# Altium integrated library Changzhou Amass Lithium Battery Connector.IntLib: 17 symbols
Pins are listed as number, name and electrical type; pins without a type are passive.

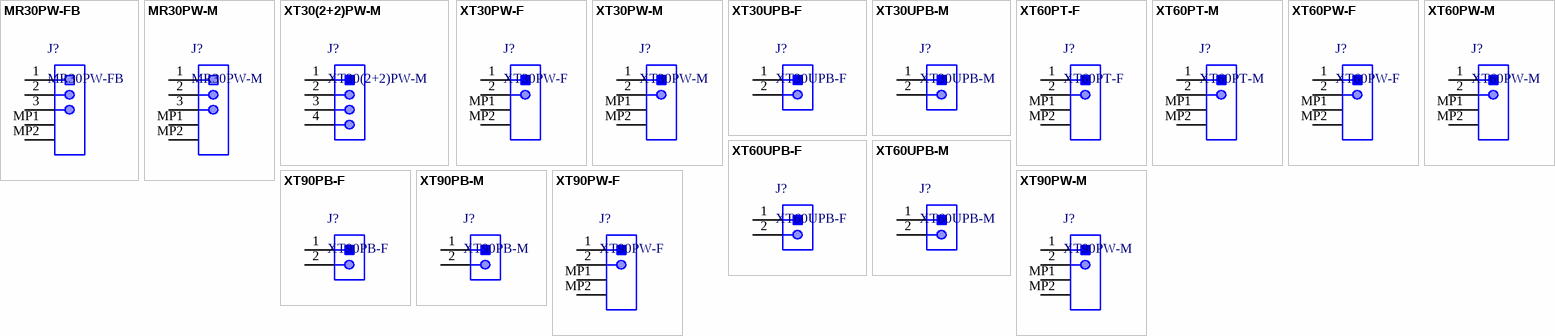
[diagram p0: symbols MR30PW-FB to XT90PW-M]

## MR30PW-FB
designator J?
Motor Connector, Female, 3-Pin THD, -20 to 120 degC; Manufacturer: AMASS; Metal Material: Brass Gold Plated; Plastic Material: PA; Current Rating: 15A; Voltage Rating: DC 500V; Part Number: MR30PW-FB; Color: Yellow; ComponentLink1Description: Manufacturer URL; ComponentLink1URL: http://www.china-amass.com; Temperature: -20℃ to 120℃
footprint AMASS-MR30PW-FB (TH, 4-Leads, Body 15.4x15mm, Pitch 3.5mm)
pins: 1, 2, 3, MP1, MP2

## MR30PW-M
designator J?
Motor Connector, Male, 3-Pin THD, -20 to 120 degC; Manufacturer: AMASS; Metal Material: Brass Gold Plated; Plastic Material: PA; Current Rating: 15A; Voltage Rating: DC 500V; Part Number: MR30PW-M; Color: Yellow; ComponentLink1Description: Manufacturer URL; ComponentLink1URL: http://www.china-amass.com; Temperature: -20℃ to 120℃
footprint AMASS-MR30PW-M (TH, 4-Leads, Body 15.4x14.05mm, Pitch 3.5mm)
pins: 1, 2, 3, MP1, MP2

## XT30(2+2)PW-M
designator J?
XT Series Controller Male Connector, 4 Pin TH, 5.0 mm Pitch, -20 to 120 degC; Manufacturer: AMASS; Part Number: XT30PW-M; Manufacturer URL: http://www.china-amass.com
footprint AMASS-XT30(2+2)PW-M (TH, 4-Leads, Body 15.5x12.53mm)
pins: 1, 2, 3, 4

## XT30PW-F
designator J?
XT Series Lithium Battery Female Connector, 4-pin TH; Manufacturer: AMASS; Manufacturer URL: http://www.china-amass.com; Part Number: XT30PW-F
footprint AMASS-XT30PW-F (TH, 4-Leads, Body 14.9x13.3mm)
pins: 1, 2, MP1, MP2

## XT30PW-M
designator J?
XT Series Lithium Battery Male Connector, 4-pin TH; Manufacturer: AMASS; Manufacturer URL: http://www.china-amass.com; Part Number: XT30PW-M
footprint AMASS-XT30PW-M (TH, 4-Leads, Body 13.95x13.3mm)
pins: 1, 2, MP1, MP2

## XT30UPB-F
designator J?
XT Series Lithium Battery Female Connector, 2-pin TH; Manufacturer: AMASS; Manufacturer URL: http://www.china-amass.com; Part Number: XT30UPB-F
footprint AMASS-XT30UPB-F (TH, 2-Leads, Body 10.2x5.2mm, Pitch 5.00mm)
pins: 1, 2

## XT30UPB-M
designator J?
XT Series Lithium Battery Male Connector, 2-pin TH; Manufacturer: AMASS; Manufacturer URL: http://www.china-amass.com; Part Number: XT30UPB-M
footprint AMASS-XT30UPB-M (TH, 2-Leads, Body 10.2x5.2mm, Pitch 5.00mm)
pins: 1, 2

## XT60PT-F
designator J?
XT Series Lithium Battery Female Connector, 4-pin TH; Manufacturer: AMASS; Manufacturer URL: http://www.china-amass.com; Part Number: XT60PT-F
footprint AMASS-XT60PT-F (Conn, Female, 4-Leads, Body 15.5x21.7mm, Pitch 7.2mm)
pins: 1, 2, MP1, MP2

## XT60PT-M
designator J?
XT Series Lithium Battery Male Connector, 4-pin TH; Manufacturer: AMASS; Manufacturer URL: http://www.china-amass.com; Part Number: XT60PT-M
footprint AMASS-XT60PT-M (Conn, Male, 4-Leads, Body 15.5x22.7mm, Pitch 7.2mm)
pins: 1, 2, MP1, MP2

## XT60PW-F
designator J?
XT Series Lithium Battery Female Connector, 4-pin TH; Manufacturer: AMASS; Manufacturer URL: http://www.china-amass.com; Part Number: XT60PW-F
footprint AMASS-XT60PW-F (TH, 2-Leads, Body 15.5x8.1mm, Pitch 7.2mm)
pins: 1, 2, MP1, MP2

## XT60PW-M
designator J?
XT Series Lithium Battery Male Connector, 4-pin TH; Manufacturer: AMASS; Manufacturer URL: http://www.china-amass.com; Part Number: XT60PW-M
footprint AMASS-XT60PW-M (TH, 2-Leads, Body 15.5x8.1mm, Pitch 7.2mm)
pins: 1, 2, MP1, MP2

## XT60UPB-F
designator J?
XT Series Lithium Battery Female Connector, 2-pin TH; Manufacturer: AMASS; Manufacturer URL: http://www.china-amass.com; Part Number: XT60UPB-F
footprint AMASS-XT60UPB-F (TH, 2-Leads, Body 15.3x7.9mm, Pitch 7.2mm)
pins: 1, 2

## XT60UPB-M
designator J?
XT Series Lithium Battery Male Connector, 2-pin TH; Manufacturer: AMASS; Metal Material: Brass Gold Plated; Plastic Material: PA; Manufacturer URL: http://www.china-amass.com; Part Number: XT60UPB-M
footprint AMASS-XT60UPB-M (TH, 2-Leads, Body 15.3x7.9mm, Pitch 7.2mm)
pins: 1, 2

## XT90PB-F
designator J?
XT Series Lithium Battery Female Connector, 2-pin TH; Manufacturer: AMASS; Part Number: XT60UPB-F; Manufacturer URL: http://www.china-amass.com
footprint AMASS-XT90PB-F (TH, 2-Leads, Body 20.8 x 9.9mm, Pitch 11.0mm)
pins: 1, 2

## XT90PB-M
designator J?
XT Series Lithium Battery Male Connector, 2-pin TH; Manufacturer: AMASS; Part Number: XT60UPB-M; Metal Material: Brass Gold Plated; Plastic Material: PA; Manufacturer URL: http://www.china-amass.com
footprint AMASS-XT90PB-M (TH, 2-Leads, Body 20.8 x 9.9mm, Pitch 11.0mm)
pins: 1, 2

## XT90PW-F
designator J?
XT Series Lithium Battery Female Connector, 4-pin TH; Manufacturer: AMASS; Manufacturer URL: http://www.china-amass.com; Part Number: XT90PW-F
footprint AMASS-XT90PW-F (Footprint not found)
pins: 1, 2, MP1, MP2

## XT90PW-M
designator J?
XT Series Lithium Battery Male Connector, 4-pin TH; Manufacturer: AMASS; Manufacturer URL: http://www.china-amass.com; Part Number: XT90PW-M
footprint AMASS-XT90PW-M (Footprint not found)
pins: 1, 2, MP1, MP2